# Altium schematic symbol library RQ6C050UNTR.SchLib: 2 symbols
Pins are listed as number, name and electrical type; pins without a type are passive.

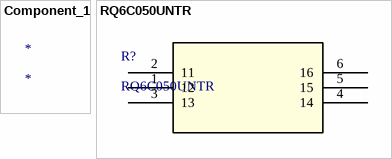
[diagram p0: symbols Component_1 to RQ6C050UNTR]

## Component_1
designator *

## RQ6C050UNTR
designator R?
No Description Available; Mfr_Name: ROHM Semiconductor; Copyright: Copyright (C) 2023 Ultra Librarian. All rights reserved.; Manufacturer_Part_Number: RQ6C050UNTR; Digi-Key_Part_Number_1: RQ6C050UNCT-ND; Digi-Key_Part_Number_2: RQ6C050UNDKR-ND; Digi-Key_Part_Number_3: RQ6C050UNTR-ND; RefDes: RefDes; Type: DEV
footprint TRANS_RQ6C050_ROM
pins: 1 12, 2 11, 3 13, 4 14, 5 15, 6 16